# Altium schematic symbol library iMX6 Rex Development Baseboard V1I1.SCHLIB: 136 symbols (part 2 of 3)
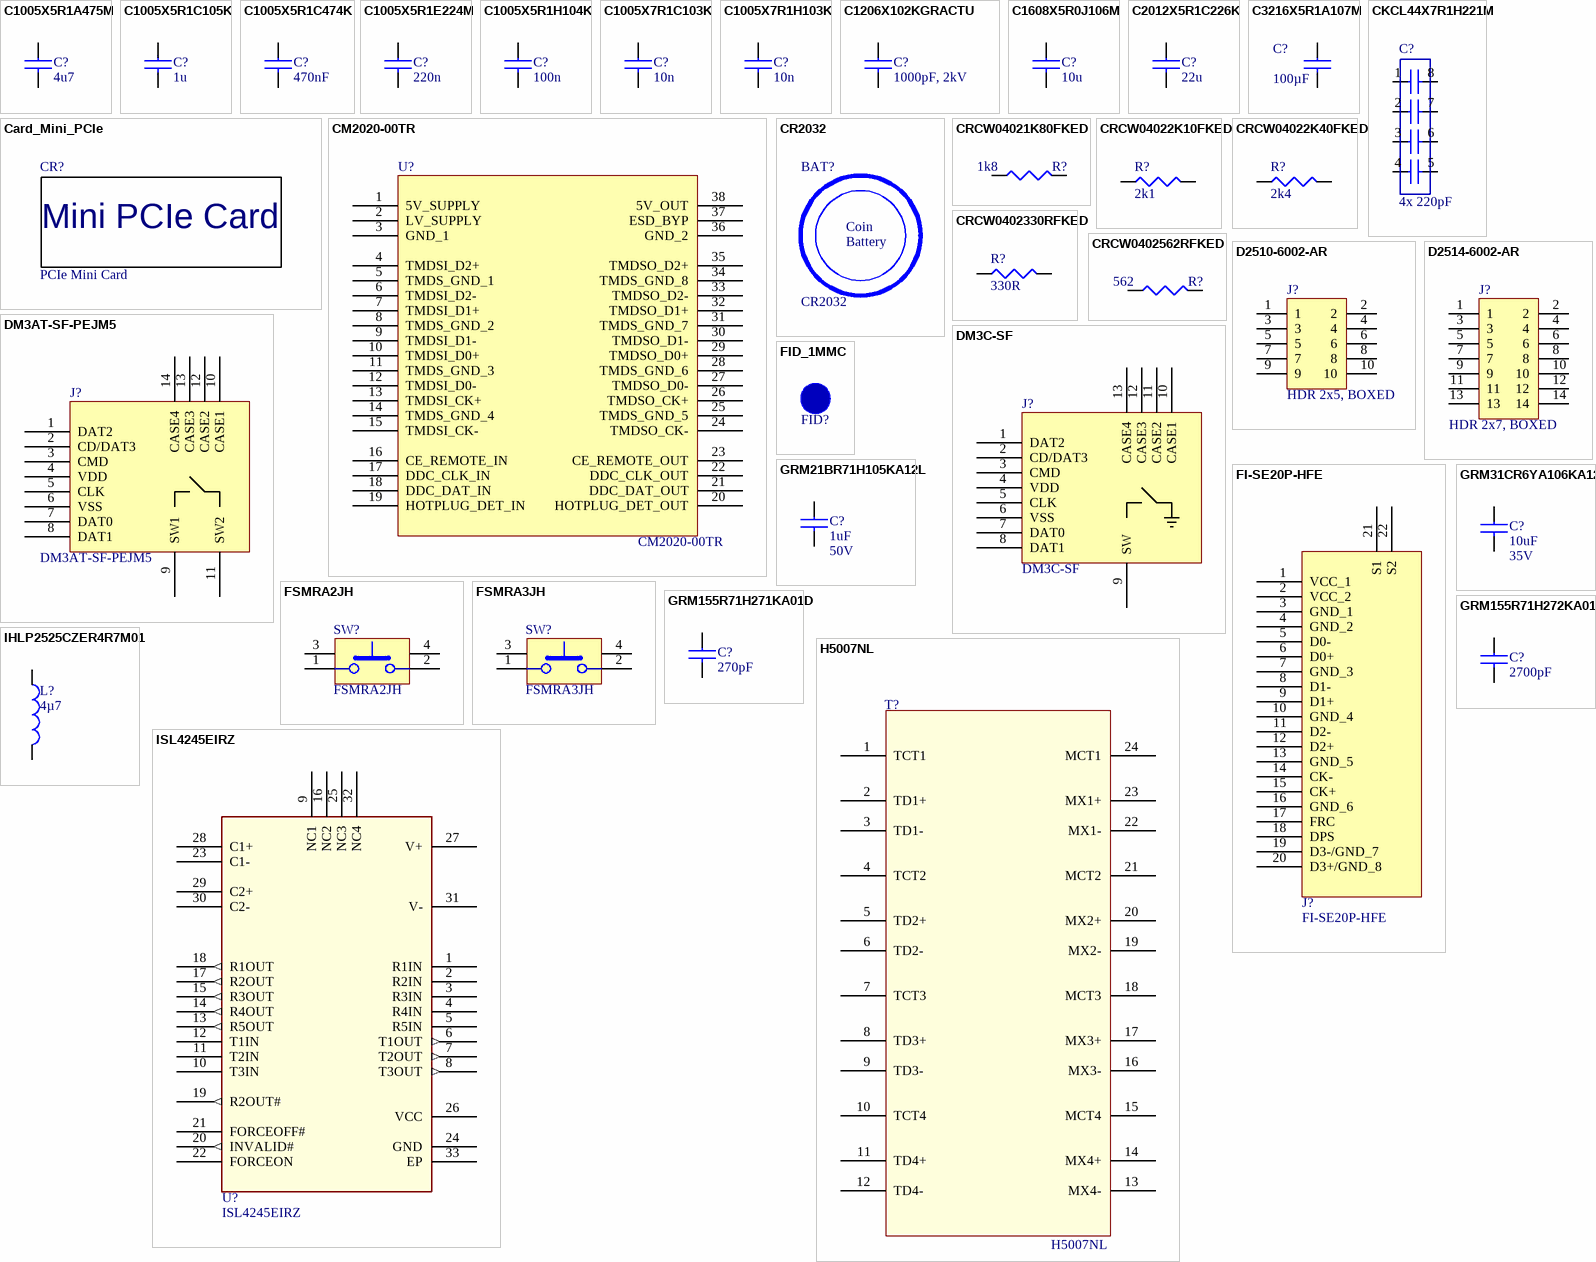
[diagram p5: symbols C1005X5R1A475M to ISL4245EIRZ]

## C1206X102KGRACTU
designator C?, comment 1000pF, 2kV
CAP CER 1000PF 2000V X7R 1206 FT; Manufacturer: Kemet; Manufacturer Part Number: C1206X102KGRACTU; .Checked PCB: used; Voltage - Rated: 2000V (2kV); Tolerance: ±10%; Capacitance: 1000pF; Category: Capacitors; Supplier Part Number: 399-5830-1-ND; Operating Temperature: -55°C ~ 125°C; Package / Case: 1206 (3216 Metric); Price 1k [$]: 0.27600; Value: 1000pF, 2kV; .Checked SCH: used; Supplier: Digikey; Supplier 1: Digi-Key; Supplier Part Number 1: 399-5830-1-ND; RoHS: RoHS Compliant; Stock 1: 2068; Pricing 1: 1=0.92, 10=0.771, 25=0.6324, 100=0.483, 250=0.37952, 500=0.345, 1000=0.276 (USD); Temperature Coefficient: X7R; Mounting Type: Surface Mount, MLCC; Applications: Boardflex Sensitive; Ratings: -; Size / Dimension: 0.134" L x 0.063" W (3.40mm x 1.60mm); Height - Seated (Max): -; Thickness (Max): 0.069" (1.75mm); Lead Spacing: -; Features: Soft Termination, High Voltage; Packaging: Cut Tape (CT); Lead Style: -; ComponentLink1URL: http://www.kemet.com/kemet/web/homepage/kechome.nsf/weben/8311688D32A99EF8852578B500644843/$file/KEM_CC105_HIVOLT.pdf; ComponentLink1Description: http://www.kemet.com/kemet/web/homepage/kechome.nsf/weben/8311688D32A99EF8852578B500644843/$file/KEM_CC105_HIVOLT.pdf
footprint C1206
pins: 1, 2

## C1608X5R0J106M
designator C?, comment 10u
CAP CER 10UF 6.3V X5R 20% 0603; Manufacturer: TDK Corporation; Manufacturer Part Number: C1608X5R0J106M; Capacitance: 10µF; Value: 10µF; .Checked PCB: used; Category: Capacitors; Supplier Part Number: 445-4112-1-ND; Operating Temperature: -55°C ~ 85°C; Package / Case: 0603 (1608 Metric); Price 1k [$]: 0.08580; .Checked SCH: used; Voltage - Rated: 6.3V; Features: Low ESR; Supplier: Digikey; Supplier 1: Digi-Key; Supplier Part Number 1: 445-4112-1-ND; RoHS: RoHS Compliant; Stock 1: 48157; Pricing 1: 1=0.46, 10=0.363, 100=0.1898, 250=0.14024, 500=0.1089, 1000=0.0858 (USD); Tolerance: ±20%; Temperature Coefficient: X5R; Mounting Type: Surface Mount, MLCC; Applications: General Purpose; Ratings: -; Size / Dimension: 0.063" L x 0.031" W (1.60mm x 0.80mm); Height - Seated (Max): -; Thickness (Max): 0.037" (0.95mm); Lead Spacing: -; Packaging: Cut Tape (CT); Lead Style: -; ComponentLink1URL: http://www.tdk.com/pdf/general_B11.pdf; ComponentLink1Description: http://www.tdk.com/pdf/general_B11.pdf
footprint C0603
pins: 1, 2

## C2012X5R1C226K
designator C?, comment 22u
CAP CER 22UF 16V 10% X5R 0805; Manufacturer: TDK Corporation; Manufacturer Part Number: C2012X5R1C226K; Capacitance: 22µF; .Checked PCB: RF; Supplier 1: Digi-Key; Supplier Part Number 1: 445-6797-1-ND; RoHS: RoHS Compliant; Category: Capacitors; Stock 1: 15408; Pricing 1: 1=0.77, 10=0.737, 100=0.3575, 250=0.297, 500=0.2695, 1000=0.2475 (USD); Voltage - Rated: 16V; Tolerance: ±10%; Temperature Coefficient: X5R; Mounting Type: Surface Mount, MLCC; Operating Temperature: -55°C ~ 85°C; Applications: General Purpose; Ratings: -; Package / Case: 0805 (2012 Metric); Size / Dimension: 0.079" L x 0.049" W (2.00mm x 1.25mm); Height - Seated (Max): -; Thickness (Max): 0.057" (1.45mm); Lead Spacing: -; Features: -; Packaging: Cut Tape (CT); Lead Style: -; ComponentLink1URL: http://www.tdk.com/pdf/general_B11.pdf; ComponentLink1Description: http://www.tdk.com/pdf/general_B11.pdf; .Checked SCH: RF
footprint C0805
pins: 1, 2

## C3216X5R1A107M
designator C?, comment 100µF
CAP CER 100UF 10V X5R 20% 1206; Manufacturer: TDK Corporation; Manufacturer Part Number: C3216X5R1A107M; .Checked PCB: used; Capacitance: 100µF; Category: Capacitors; Operating Temperature: -55°C ~ 85°C; Package / Case: 1206 (3216 Metric); Price 1k [$]: 0.85800; Value: 100µF; .Checked SCH: used; Voltage - Rated: 10V; Supplier Part Number: 445-6007-1-ND; Supplier: Digikey; Supplier 1: Digi-Key; Supplier Part Number 1: 445-6007-1-ND; RoHS: RoHS Compliant; Stock 1: 28026; Pricing 1: 1=1.65, 10=1.353, 100=1.089, 250=0.957, 500=0.891, 1000=0.693 (USD); Tolerance: ±20%; Temperature Coefficient: X5R; Mounting Type: Surface Mount, MLCC; Applications: General Purpose; Ratings: -; Size / Dimension: 0.126" L x 0.063" W (3.20mm x 1.60mm); Height - Seated (Max): -; Thickness (Max): 0.071" (1.80mm); Lead Spacing: -; Features: -; Packaging: Cut Tape (CT); Lead Style: -; ComponentLink1URL: http://www.tdk.com/pdf/general_B11.pdf; ComponentLink1Description: http://www.tdk.com/pdf/general_B11.pdf
footprint C1206
pins: 1, 2

## Card_Mini_PCIe
designator CR?, comment PCIe Mini Card  (no BOM)
Card MIni PCIe; .Creator: MM; Category: Card
footprint Mini_PCIe_full card (.Creator MM)
text: Mini PCIe Card

## CKCL44X7R1H221M
designator C?, comment 4x 220pF
CAP ARRAY 4CH 220PF 50V 0805; Manufacturer: TDK Corporation; Manufacturer Part Number: CKCL44X7R1H221M; Dielectric Material: Ceramic; Number of Capacitors: 4; Circuit Type: Isolated; Temperature Coefficient: X7R; Tolerance: ±20%; .Checked PCB: RF; Supplier 1: Digi-Key; Supplier Part Number 1: 445-1830-1-ND; RoHS: RoHS Compliant; Category: Capacitors; Stock 1: 43671; Pricing 1: 1=0.38, 10=0.297, 100=0.1553, 250=0.11476, 500=0.0891, 1000=0.0702 (USD); Capacitance: 220pF; Voltage - Rated: 50V; Mounting Type: Surface Mount; Package / Case: 0805 (2012 Metric); Size / Dimension: 0.079" L x 0.049" W (2.00mm x 1.25mm); Height - Seated (Max): 0.039" (1.00mm); Packaging: Cut Tape (CT); ComponentLink1URL: http://www.tdk.com/pdf/array_B11.pdf; ComponentLink1Description: http://www.tdk.com/pdf/array_B11.pdf; .Checked SCH: RF
footprint 4x_CAP_CC0805_CKCL44
pins: 1, 2, 3, 4, 5, 6, 7, 8

## CM2020-00TR
designator U?
IC HDMI TX PORT P/I 38-TSSOP; Manufacturer: ON Semiconductor; .Creator: MM; .Checked PCB: RF, used by MM; Supplier 1: Digi-Key; Manufacturer Part Number: CM2020-00TR; RoHS: RoHS Compliant; Category: Integrated Circuits (ICs); Stock 1: 7580; Pricing 1: 1=1.52, 10=1.34, 25=1.2096, 100=1.0584, 250=0.9282, 500=0.8232, 1000=0.651 (USD); Packaging: Cut Tape (CT); Type: HDMI Transmitter; Applications: Consumer Electronics, DVD-RW Players, Set Top Box; Mounting Type: Surface Mount; Package / Case: 38-TFSOP (0.173", 4.40mm Width) Exposed Pad; Supplier Device Package: 38-TSSOP; ComponentLink1URL: http://www.onsemi.com/pub_link/Collateral/CM2020-00TR-D.PDF; ComponentLink1Description: http://www.onsemi.com/pub_link/Collateral/CM2020-00TR-D.PDF; Supplier Part Number 1: CM2020-00TROSCT-ND; .Checked SCH: RF, used by MM
footprint TSSOP_38
pins: 1 5V_SUPPLY, 2 LV_SUPPLY, 3 GND_1, 4 TMDSI_D2+, 5 TMDS_GND_1, 6 TMDSI_D2-, 7 TMDSI_D1+, 8 TMDS_GND_2, 9 TMDSI_D1-, 10 TMDSI_D0+, 11 TMDS_GND_3, 12 TMDSI_D0-, 13 TMDSI_CK+, 14 TMDS_GND_4, 15 TMDSI_CK-, 16 CE_REMOTE_IN, 17 DDC_CLK_IN, 18 DDC_DAT_IN, 19 HOTPLUG_DET_IN, 20 HOTPLUG_DET_OUT, 21 DDC_DAT_OUT, 22 DDC_CLK_OUT, 23 CE_REMOTE_OUT, 24 TMDSO_CK-, 25 TMDS_GND_5, 26 TMDSO_CK+, 27 TMDSO_D0-, 28 TMDS_GND_6, 29 TMDSO_D0+, 30 TMDSO_D1-, 31 TMDS_GND_7, 32 TMDSO_D1+, 33 TMDSO_D2-, 34 TMDS_GND_8, 35 TMDSO_D2+, 36 GND_2, 37 ESD_BYP, 38 5V_OUT

## CR2032
designator BAT?  (mechanical)
BATTERY LITHIUM COIN 3V 20MM; Manufacturer: Panasonic - BSG; Battery Cell Size: Coin, 20.0mm; Capacity: 225mAh; Discharge Rate: 200µA; Shipping Info: Due to possible restrictions, a change in ship method may be required.; .Checked SCH: RF; Supplier 1: Digi-Key; Manufacturer Part Number: CR2032; RoHS: RoHS Compliant By Exemption; Category: Battery Products; Stock 1: 2691411; Pricing 1: 1=0.28, 10=0.248, 50=0.22, 200=0.1925, 400=0.176, 800=0.165, 1200=0.15125 (USD); Battery Chemistry: Lithium; Voltage - Rated: 3V; Size / Dimension: 0.79" Dia x 0.13" H (20.0mm x 3.2mm); Termination Style: Requires Holder; Weight: 0.1 oz (2.85g); ComponentLink1URL: http://panasonic.com/industrial/includes/pdf/Panasonic_Lithium_CR2032_CR2330.pdf; ComponentLink1Description: http://panasonic.com/industrial/includes/pdf/Panasonic_Lithium_CR2032_CR2330.pdf; Supplier Part Number 1: P189-ND; .Checked PCB: RF
text: Coin; Battery

## CRCW04021K80FKED
designator R?, comment 1k8
RES 1.80K OHM 1/16W 1% 0402 SMD; Manufacturer: Vishay Dale; Manufacturer Part Number: CRCW04021K80FKED; Resistance (Ohms): 1.8K; Power (Watts): 0.063W, 1/16W; Temperature Coefficient: ±100ppm/°C; .Checked PCB: RF; Supplier 1: Digi-Key; Supplier Part Number 1: 541-1.80KLCT-ND; RoHS: RoHS Compliant; Category: Resistors; Stock 1: 48596; Pricing 1: 10=0.083, 50=0.0444, 200=0.0255, 1000=0.0174 (USD); Composition: Thick Film; Features: -; Tolerance: ±1%; Size / Dimension: 0.039" L x 0.020" W (1.00mm x 0.50mm); Height: 0.016" (0.40mm); Number of Terminations: 2; Packaging: Cut Tape (CT); Package / Case: 0402 (1005 Metric); ComponentLink1URL: http://www.vishay.com/doc?20035; ComponentLink1Description: http://www.vishay.com/doc?20035; .Checked SCH: RF
footprint R0402
pins: 1, 2

## CRCW04022K10FKED
designator R?, comment 2k1
RES 2.10K OHM 1/16W 1% 0402 SMD; Manufacturer: Vishay Dale; Manufacturer Part Number: CRCW04022K10FKED; Resistance (Ohms): 2.1k; Power (Watts): 0.063W, 1/16W; Temperature Coefficient: ±100ppm/°C; .Creator: MM; .Checked PCB: RF, used by MM; Supplier 1: Digi-Key; RoHS: RoHS Compliant; Category: Resistors; Stock 1: 65680; Pricing 1: 10=0.083, 50=0.0444, 200=0.0255, 1000=0.0174 (USD); Packaging: Cut Tape (CT); Tolerance: ±1%; Composition: Thick Film; Features: Automotive AEC-Q200 Qualified; Package / Case: 0402 (1005 Metric); Supplier Device Package: 0402 (1005 Metric); Size / Dimension: 0.039" L x 0.020" W (1.00mm x 0.50mm); Height: 0.016" (0.40mm); Number of Terminations: 2; ComponentLink1URL: http://www.vishay.com/doc?20035; ComponentLink1Description: http://www.vishay.com/doc?20035; Supplier Part Number 1: 541-2.10KLCT-ND; .Checked SCH: RF, used by MM
footprint R0402
pins: 1, 2

## CRCW04022K40FKED
designator R?, comment 2k4
RES 2.40K OHM 1/16W 1% 0402 SMD; Manufacturer: Vishay Dale; Manufacturer Part Number: CRCW04022K40FKED; Resistance (Ohms): 2.4K; Power (Watts): 0.063W, 1/16W; Temperature Coefficient: ±100ppm/°C; .Checked PCB: RF; Supplier 1: Digi-Key; Supplier Part Number 1: 541-2.40KLCT-ND; RoHS: RoHS Compliant; Category: Resistors; Stock 1: 43967; Pricing 1: 10=0.083, 50=0.0444, 200=0.0255, 1000=0.0174 (USD); Composition: Thick Film; Features: -; Tolerance: ±1%; Package / Case: 0402 (1005 Metric); Size / Dimension: 0.039" L x 0.020" W (1.00mm x 0.50mm); Height: 0.016" (0.40mm); Number of Terminations: 2; Packaging: Cut Tape (CT); ComponentLink1URL: http://www.vishay.com/doc?20035; ComponentLink1Description: http://www.vishay.com/doc?20035; .Checked SCH: RF
footprint R0402
pins: 1, 2

## CRCW0402330RFKED
designator R?, comment 330R
RES 330 OHM 1/16W 1% 0402 SMD; Manufacturer: Vishay Dale; Manufacturer Part Number: CRCW0402330RFKED; Resistance (Ohms): 330; Power (Watts): 0.063W, 1/16W; Temperature Coefficient: ±100ppm/°C; .Checked PCB: RF; Supplier 1: Digi-Key; Supplier Part Number 1: 541-330LCT-ND; RoHS: RoHS Compliant; Category: Resistors; Stock 1: 49303; Pricing 1: 10=0.083, 50=0.0444, 200=0.0255, 1000=0.0174 (USD); Composition: Thick Film; Features: -; Tolerance: ±1%; Package / Case: 0402 (1005 Metric); Size / Dimension: 0.039" L x 0.020" W (1.00mm x 0.50mm); Height: 0.016" (0.40mm); Number of Terminations: 2; Packaging: Cut Tape (CT); ComponentLink1URL: http://www.vishay.com/doc?20035; ComponentLink1Description: http://www.vishay.com/doc?20035; .Checked SCH: RF
footprint R0402
pins: 1, 2

## CRCW0402562RFKED
designator R?, comment 562
RES 562 OHM 1/16W 1% 0402 SMD; Manufacturer: Vishay Dale; Manufacturer Part Number: CRCW0402562RFKED; Power (Watts): 0.063W, 1/16W; Temperature Coefficient: ±100ppm/°C; .Checked PCB: RF; Supplier 1: Digi-Key; Supplier Part Number 1: 541-562LCT-ND; RoHS: RoHS Compliant; Category: Resistors; Stock 1: 34891; Pricing 1: 10=0.083, 50=0.0444, 200=0.0255, 1000=0.0174 (USD); Resistance (Ohms): 562; Composition: Thick Film; Features: -; Tolerance: ±1%; Package / Case: 0402 (1005 Metric); Size / Dimension: 0.039" L x 0.020" W (1.00mm x 0.50mm); Height: 0.016" (0.40mm); Number of Terminations: 2; Packaging: Cut Tape (CT); ComponentLink1URL: http://www.vishay.com/doc?20035; ComponentLink1Description: http://www.vishay.com/doc?20035; .Checked SCH: RF
footprint R0402
pins: 1, 2

## D2510-6002-AR
designator J?, comment HDR 2x5, BOXED
CONN HEADER 10POS VERT 10GOLD; Manufacturer: 3M; Manufacturer Part Number: D2510-6002-AR; Connector Type: Header, Shrouded; Number of Positions: 10; Number of Positions Loaded: All; Pitch: 0.100" (2.54mm); .Creator: MM; Supplier 1: Digi-Key; RoHS: RoHS Compliant; Category: Connectors, Interconnects; Stock 1: 1080; Pricing 1: 1=1.57, 10=1.421, 50=1.276, 100=1.218, 250=1.102, 500=1.015, 1000=0.87, 2500=0.812, 5000=0.7714 (USD); Packaging: Bulk; Contact Type: Male Pin; Number of Rows: 2; Row Spacing: 0.100" (2.54mm); Contact Mating Length: 0.243" (6.17mm); Mounting Type: Through Hole; Termination: Solder; Fastening Type: -; Features: -; Contact Finish: Gold; Contact Finish Thickness: 10µin (0.25µm); Color: Black; ComponentLink1URL: http://multimedia.3m.com/mws/mediawebserver?66666UuZjcFSLXTtm8T_oxMcEVuQEcuZgVs6EVs6E666666--; ComponentLink1Description: http://multimedia.3m.com/mws/mediawebserver?66666UuZjcFSLXTtm8T_oxMcEVuQEcuZgVs6EVs6E666666--; Supplier Part Number 1: MHC10E-ND; .Checked PCB: MM; .Checked SCH: MM
footprint HDR_2x5_2.54mm_BOXED (Creator MM)
pins: 1, 2, 3, 4, 5, 6, 7, 8, 9, 10

## D2514-6002-AR
designator J?, comment HDR 2x7, BOXED
CONN HEADER 14POS VERT 10GOLD; Manufacturer: 3M; Manufacturer Part Number: D2514-6002-AR; Connector Type: Header, Shrouded; Number of Positions: 14; Number of Positions Loaded: All; Pitch: 0.100" (2.54mm); .Creator: MM; Supplier 1: Digi-Key; RoHS: RoHS Compliant; Category: Connectors, Interconnects; Stock 1: 5967; Pricing 1: 1=1.62, 10=1.47, 50=1.32, 100=1.26, 250=1.14, 500=1.05, 1000=0.9, 2500=0.84, 5000=0.798 (USD); Packaging: Bulk; Contact Type: Male Pin; Number of Rows: 2; Row Spacing: 0.100" (2.54mm); Contact Mating Length: 0.243" (6.17mm); Mounting Type: Through Hole; Termination: Solder; Fastening Type: -; Features: -; Contact Finish: Gold; Contact Finish Thickness: 10µin (0.25µm); Color: Black; ComponentLink1URL: http://multimedia.3m.com/mws/mediawebserver?66666UuZjcFSLXTtm8T_oxMcEVuQEcuZgVs6EVs6E666666--; ComponentLink1Description: http://multimedia.3m.com/mws/mediawebserver?66666UuZjcFSLXTtm8T_oxMcEVuQEcuZgVs6EVs6E666666--; Supplier Part Number 1: MHC14E-ND; .Checked PCB: MM; .Checked SCH: MM
footprint HDR_2x7_2.54MM_BOXED (Creator MM)
pins: 1, 2, 3, 4, 5, 6, 7, 8, 9, 10, 11, 12, 13, 14

## DM3AT-SF-PEJM5
designator J?
CONN MICRO SD R/A PUSH-PUSH SMD; Manufacturer: Hirose Electric Co Ltd; .Checked PCB: MM; Connector Type: Connector and Ejector; Card Type: Secure Digital - microSD TransFlash; Number of Positions: 10 (8 + 2); Insertion, Removal Method: Push In, Push Out; .Checked SCH: MM; Category: Connectors, Interconnects; Supplier Part Number: HR1964CT-ND; Family: Memory - PC Card Connectors; Manufacturer Part Number: DM3AT-SF-PEJM5; Price 1k [$]: 1.85200; Supplier: Digikey; Supplier 1: Digi-Key; Supplier Part Number 1: HR1964CT-ND; RoHS: RoHS Compliant; Stock 1: 7044; Pricing 1: 1=2.96, 10=2.457, 50=2.0476, 100=1.82, 250=1.5106, 500=1.365 (USD); Ejector Side: -; Mounting Type: Surface Mount, Right Angle; Features: Switch; Height Above Board: 0.066" (1.68mm); Mounting Feature: Normal, Standard - Top; Packaging: Cut Tape (CT); Contact Finish: Gold; Contact Finish Thickness: -; ComponentLink1URL: http://www.hirose.co.jp/cataloge_hp/e60900232.pdf; ComponentLink1Description: http://www.hirose.co.jp/cataloge_hp/e60900232.pdf
footprint uSD_DM3AT (MM added 3D model & asmbly layer.)
pins: 1 DAT2, 2 CD/DAT3, 3 CMD, 4 VDD, 5 CLK, 6 VSS, 7 DAT0, 8 DAT1, 9 SW1, 10 CASE1, 11 SW2, 12 CASE2, 13 CASE3, 14 CASE4

## DM3C-SF
designator J?
CONN MICRO SD R/A HING TYPE SMD; Manufacturer: Hirose Electric Co Ltd; Card Type: Secure Digital - microSD™; Number of Positions: 10 (8 + 2); Connector Type: Connector and Ejector; Insertion, Removal Method: Hinged Lid; .Creator: MM; Supplier 1: Digi-Key; Manufacturer Part Number: DM3C-SF; RoHS: RoHS Compliant; Category: Connectors, Interconnects; Stock 1: 87; Pricing 1: 1=2.36, 10=1.96, 25=1.8152, 50=1.6368, 100=1.452, 250=1.2738, 500=1.1616 (USD); Packaging: Cut Tape (CT); Ejector Side: -; Mounting Type: Surface Mount, Right Angle; Features: Switch; Height Above Board: 0.072" (1.83mm); Mounting Feature: Normal, Standard - Top; Contact Finish: Gold; Contact Finish Thickness: -; ComponentLink1URL: http://www.hirose.co.jp/cataloge_hp/e60900232.pdf; ComponentLink1Description: http://www.hirose.co.jp/cataloge_hp/e60900232.pdf; Supplier Part Number 1: HR1940CT-ND; .Checked PCB: MM; .Checked SCH: MM
footprint uSD_DM3CS (Creator MM)
pins: 1 DAT2, 2 CD/DAT3, 3 CMD, 4 VDD, 5 CLK, 6 VSS, 7 DAT0, 8 DAT1, 9 SW, 10 CASE1, 11 CASE2, 12 CASE3, 13 CASE4

## FI-SE20P-HFE
designator J?
CONN RCPT 1.25MM 20POS SMD R/A; Manufacturer: JAE Electronics; Connector Type: Receptacle; Number of Positions: 20; Number of Positions Loaded: All; Pitch: 0.049" (1.25mm); .Creator: MM; Supplier 1: Digi-Key; Manufacturer Part Number: FI-SE20P-HFE; RoHS: RoHS Compliant; Category: Connectors, Interconnects; Stock 1: 7292; Pricing 1: 1=4.93, 10=4.728, 25=4.334, 100=3.94, 250=3.44752, 500=3.349, 1000=2.8565 (USD); Packaging: Tray; Contact Type: Male Pin; Number of Rows: 1; Row Spacing: -; Contact Mating Length: -; Mounting Type: Surface Mount, Right Angle; Termination: Solder; Fastening Type: Friction Lock; Features: Solder Retention; Contact Finish: Gold; Contact Finish Thickness: -; Color: Beige; ComponentLink1URL: http://jae-connector.com/en/pdf/SJ100489.pdf; ComponentLink1Description: http://jae-connector.com/en/pdf/SJ100489.pdf; Supplier Part Number 1: 670-1843-ND; .Checked PCB: MM; .Checked SCH: MM
footprint FI-SE20P-HFE (Creator MM)
pins: 1 VCC_1, 2 VCC_2, 3 GND_1, 4 GND_2, 5 D0-, 6 D0+, 7 GND_3, 8 D1-, 9 D1+, 10 GND_4, 11 D2-, 12 D2+, 13 GND_5, 14 CK-, 15 CK+, 16 GND_6, 17 FRC, 18 DPS, 19 D3-/GND_7, 20 D3+/GND_8, 21 S1, 22 S2
1 alternate drawing of the same symbol

## FID_1MMC
designator FID?  (value not drawn)  (no BOM)
Fiducial 40mil Diameter, 120mil Mask; Supplier: Digikey
footprint FID_40X120D

## FSMRA2JH
designator SW?
SWITCH TACTILE SPST-NO 0.05A 12V; Manufacturer: TE Connectivity; Switch Function: Off-Mom; Contact Rating @ Voltage: 0.05A @ 12VDC; Actuator Type: Standard; Actuator Height off PCB, from Pins: 3.86mm; Actuator Orientation: Side Actuated; Outline: 7.10mm x 7.00mm; Illumination: Non-Illuminated; Operating Force: 160gf; Actuator Material: Polybutylene Terephthalate (PBT); Switch Travel: 0.25mm; Mechanical Life: 100,000 Cycles; .Creator: MM; Supplier 1: Digi-Key; Manufacturer Part Number: FSMRA2JH; RoHS: RoHS Compliant; Category: Switches; Stock 1: 12215; Pricing 1: 1=0.16, 10=0.151, 25=0.146, 50=0.141, 100=0.1331, 250=0.12528, 500=0.12006, 1000=0.09135 (USD); Packaging: Bulk; Circuit: SPST-NO; Mounting Type: Through Hole, Right Angle; Termination Style: PC Pin; Illumination Voltage (Nominal): -; Illumination Type, Color: -; Ingress Protection: -; Features: -; Operating Temperature: -35°C ~ 85°C; ComponentLink1URL: http://media.digikey.com/pdf/Data%20Sheets/Tyco%20Electronics%20Alcoswitch%20PDFs/FSM%20Series.pdf; ComponentLink1Description: http://media.digikey.com/pdf/Data%20Sheets/Tyco%20Electronics%20Alcoswitch%20PDFs/FSM%20Series.pdf; Supplier Part Number 1: 450-1662-ND; .Checked PCB: MM; .Checked SCH: MM
footprint FSMRA2JH (Creator MM)
pins: 1, 2, 3 MECH1, 4 MECH2

## FSMRA3JH
designator SW?
SWITCH TACTILE SPST-NO 0.05A 12V; Manufacturer: TE Connectivity; Switch Function: Off-Mom; Contact Rating @ Voltage: 0.05A @ 12VDC; Actuator Type: Standard; Actuator Height off PCB, from Pins: 5.85mm; Actuator Orientation: Side Actuated; Outline: 7.10mm x 7.00mm; Illumination: Non-Illuminated; Operating Force: 160gf; Actuator Material: Polyamide (PA), Nylon; Switch Travel: 0.25mm; Mechanical Life: 100,000 Cycles; .Creator: MM; Supplier 1: Digi-Key; Manufacturer Part Number: FSMRA3JH; RoHS: RoHS Compliant; Category: Switches; Stock 1: 37985; Pricing 1: 1=0.15, 10=0.143, 25=0.1376, 50=0.1328, 100=0.1255, 250=0.11808, 500=0.11316, 1000=0.0861 (USD); Packaging: Bulk; Circuit: SPST-NO; Mounting Type: Through Hole, Right Angle; Termination Style: PC Pin; Illumination Voltage (Nominal): -; Illumination Type, Color: -; Ingress Protection: -; Features: -; Operating Temperature: -35°C ~ 85°C; ComponentLink1URL: http://www.te.com/commerce/DocumentDelivery/DDEController?Action=srchrtrv&DocNm=1825027&DocType=Customer+Drawing&DocLang=English; ComponentLink1Description: http://www.te.com/commerce/DocumentDelivery/DDEController?Action=srchrtrv&DocNm=1825027&DocType=Customer+Drawing&DocLang=English; Supplier Part Number 1: 450-1657-ND; .Checked PCB: MM; .Checked SCH: MM
footprint FSMRA3JH (Creator MM)
pins: 1, 2, 3 MECH1, 4 MECH2

## GRM21BR71H105KA12L
designator C?, comment 1uF  Voltage - Rated: 50V
CAP CER 1UF 50V X7R 0805; Manufacturer: Murata Electronics North America; Manufacturer Part Number: GRM21BR71H105KA12L; Capacitance: 1.0µF; .Checked PCB: used; Tolerance: ±10%; Category: Capacitors; Operating Temperature: -55°C ~ 125°C; Package / Case: 0805 (2012 Metric); Price 1k [$]: 0.1359; Value: 1uF; .Checked SCH: used; Supplier Part Number: 490-4736-1-ND; Supplier: Digikey; Supplier 1: Digi-Key; Supplier Part Number 1: 490-4736-1-ND; RoHS: RoHS Compliant; Stock 1: 422791; Pricing 1: 1=0.28, 10=0.254, 25=0.226, 50=0.1978, 100=0.1836, 250=0.16952, 500=0.16102, 750=0.14691, 1000=0.12995 (USD); Temperature Coefficient: X7R; Mounting Type: Surface Mount, MLCC; Applications: General Purpose; Ratings: -; Size / Dimension: 0.079" L x 0.049" W (2.00mm x 1.25mm); Height - Seated (Max): -; Thickness (Max): 0.053" (1.35mm); Lead Spacing: -; Features: -; Packaging: Cut Tape (CT); Lead Style: -; ComponentLink1URL: http://search.murata.co.jp/Ceramy/image/img/PDF/ENG/GRM21BR71H105KA12.pdf; ComponentLink1Description: http://search.murata.co.jp/Ceramy/image/img/PDF/ENG/GRM21BR71H105KA12.pdf
footprint C0805
pins: 1, 2

## GRM31CR6YA106KA12L
designator C?, comment 10uF  Voltage - Rated: 35V
CAP CER 10UF 35V X5R 1206; Manufacturer: Murata Electronics North America; Manufacturer Part Number: GRM31CR6YA106KA12L; Capacitance: 10µF; .Checked PCB: used; Tolerance: ±10%; Category: Capacitors; Operating Temperature: -55°C ~ 85°C; Package / Case: 1206 (3216 Metric); Price 1k [$]: 0.19448; Value: 10uF; .Checked SCH: used; Supplier Part Number: 490-5524-1-ND; Supplier: Digikey; Supplier 1: Digi-Key; Supplier Part Number 1: 490-5524-1-ND; RoHS: RoHS Compliant; Stock 1: 76334; Pricing 1: 1=0.6, 10=0.501, 50=0.359, 100=0.3142, 250=0.24684, 500=0.2244, 1000=0.17952 (USD); Temperature Coefficient: X5R; Mounting Type: Surface Mount, MLCC; Applications: General Purpose; Ratings: -; Size / Dimension: 0.126" L x 0.063" W (3.20mm x 1.60mm); Height - Seated (Max): -; Thickness (Max): 0.071" (1.80mm); Lead Spacing: -; Features: -; Packaging: Cut Tape (CT); Lead Style: -; ComponentLink1URL: http://www.murata.com/products/catalog/pdf/c02e.pdf; ComponentLink1Description: http://www.murata.com/products/catalog/pdf/c02e.pdf
footprint C1206
pins: 1, 2

## GRM155R71H271KA01D
designator C?, comment 270pF
CAP CER 270PF 50V 10% X7R 0402; Manufacturer: Murata Electronics North America; Manufacturer Part Number: GRM155R71H271KA01D; .Checked PCB: RF; Supplier 1: Digi-Key; Supplier Part Number 1: 490-1299-1-ND; RoHS: RoHS Compliant; Category: Capacitors; Stock 1: 83894; Pricing 1: 10=0.032, 50=0.0252, 100=0.0189, 250=0.01364, 500=0.01008, 1000=0.00683, 5000=0.00525 (USD); Capacitance: 270pF; Voltage - Rated: 50V; Tolerance: ±10%; Temperature Coefficient: X7R; Mounting Type: Surface Mount, MLCC; Operating Temperature: -55°C ~ 125°C; Applications: General Purpose; Ratings: -; Package / Case: 0402 (1005 Metric); Size / Dimension: 0.039" L x 0.020" W (1.00mm x 0.50mm); Height - Seated (Max): -; Thickness (Max): 0.022" (0.55mm); Lead Spacing: -; Features: -; Packaging: Cut Tape (CT); Lead Style: -; ComponentLink1URL: http://search.murata.co.jp/Ceramy/image/img/PDF/ENG/GRM155R71H271KA01.pdf; ComponentLink1Description: http://search.murata.co.jp/Ceramy/image/img/PDF/ENG/GRM155R71H271KA01.pdf; .Checked SCH: RF
footprint C0402
pins: 1, 2

## GRM155R71H272KA01D
designator C?, comment 2700pF
CAP CER 2700PF 50V 10% X7R 0402; Manufacturer: Murata Electronics North America; Manufacturer Part Number: GRM155R71H272KA01D; .Checked PCB: RF; Supplier 1: Digi-Key; Supplier Part Number 1: 490-1306-1-ND; RoHS: RoHS Compliant; Category: Capacitors; Stock 1: 38160; Pricing 1: 10=0.01, 50=0.0086, 100=0.0074, 250=0.00664, 500=0.00618, 750=0.00571, 1000=0.00542 (USD); Capacitance: 2700pF; Voltage - Rated: 50V; Tolerance: ±10%; Temperature Coefficient: X7R; Mounting Type: Surface Mount, MLCC; Operating Temperature: -55°C ~ 125°C; Applications: General Purpose; Ratings: -; Package / Case: 0402 (1005 Metric); Size / Dimension: 0.039" L x 0.020" W (1.00mm x 0.50mm); Height - Seated (Max): -; Thickness (Max): 0.022" (0.55mm); Lead Spacing: -; Features: -; Packaging: Cut Tape (CT); Lead Style: -; ComponentLink1URL: http://search.murata.co.jp/Ceramy/image/img/PDF/ENG/GRM155R71H272KA01.pdf; ComponentLink1Description: http://search.murata.co.jp/Ceramy/image/img/PDF/ENG/GRM155R71H272KA01.pdf; .Checked SCH: RF
footprint C0402
pins: 1, 2

## H5007NL
designator T?
MODULE SINGLE GIGABIT LAN 24SOIC; Manufacturer: PULSE ELECTRONICS CORPORATION; .Checked PCB: MM; Transformer Type: Isolation and Data Interface (Encapsulated); Turns Ratio - Primary:Secondary: 1CT : 1CT; Category: Transformers; Family: Pulse; Manufacturer Part Number: H5007NL; Operating Temperature: 0°C ~ 70°C; Price 1k [$]: 3.25125; Supplier: Digikey; Supplier Part Number: 553-1334-ND; .Checked SCH: MM; Supplier 1: Digi-Key; Supplier Part Number 1: 553-1334-ND; RoHS: RoHS Compliant; Stock 1: 15654; Pricing 1: 1=5.74, 10=5.1, 100=4.08, 250=3.69752, 500=3.50626, 1000=3.25125, 5000=3.162 (USD); Inductance: -; E.T.: -; Mounting Type: Surface Mount; Size / Dimension: 17.53mm L x 12.20mm W; Height - Seated (Max): 5.76mm; ComponentLink1URL: http://ww2.pulseeng.com/products/datasheets/HC500.pdf; ComponentLink1Description: http://ww2.pulseeng.com/products/datasheets/HC500.pdf
footprint H5007NL
pins: 1 TCT1, 2 TD1+, 3 TD1-, 4 TCT2, 5 TD2+, 6 TD2-, 7 TCT3, 8 TD3+, 9 TD3-, 10 TCT4, 11 TD4+, 12 TD4-, 13 MX4-, 14 MX4+, 15 MCT4, 16 MX3-, 17 MX3+, 18 MCT3, 19 MX2-, 20 MX2+, 21 MCT2, 22 MX1-, 23 MX1+, 24 MCT1

## IHLP2525CZER4R7M01
designator L?, comment 4µ7
INDUCTOR POWER 4.7UH 5.5A SMD; Manufacturer: Vishay/Dale; Manufacturer Part Number: IHLP2525CZER4R7M01; .Checked PCB: used; Inductance: 4.7µH; Current - Saturation: 10A; Shielding: Shielded; DC Resistance (DCR): 40 mOhm Max; Tolerance: ±20%; Frequency - Test: 100kHz; .Checked SCH: used; Category: Inductors, Coils, Chokes; Operating Temperature: -55°C ~ 125°C; Package / Case: 0.270" L x 0.255" W x 0.118" H (6.86mm x 6.47mm x 3.00mm); Price 1k [$]: 1.09800; Value: 4µ7; Current: 5.5A; Applications: General Purpose; Supplier Part Number: 541-1010-1-ND; Supplier: Digikey; Supplier 1: Digi-Key; Supplier Part Number 1: 541-1010-1-ND; RoHS: RoHS Compliant; Stock 1: 25684; Pricing 1: 1=2.26, 10=1.83, 100=1.525, 500=1.22, 1000=1.098 (USD); Current - Temperature Rise: 5.5A; Type: -; Q @ Freq: -; Frequency - Self Resonant: -; Material - Core: -; Mounting Type: Surface Mount; Packaging: Cut Tape (CT); ComponentLink1URL: http://www.vishay.com/doc?34104; ComponentLink1Description: http://www.vishay.com/doc?34104
footprint IHLP_255MILx270MIL
pins: 1, 2

## ISL4245EIRZ
designator U?
IC 3DRVR/5RCVR RS232 3V 32-QFN; Manufacturer: Intersil; Number of Drivers/Receivers: 3/5; Voltage - Supply: 2.7 V ~ 5.5 V; .Checked PCB: RF; Supplier 1: Digi-Key; Supplier Part Number 1: ISL4245EIRZ-ND; Manufacturer Part Number: ISL4245EIRZ; RoHS: RoHS Compliant; Category: Integrated Circuits (ICs); Stock 1: 1147; Pricing 1: 1=6.44, 25=5.23, 100=3.65 (USD); Type: Transceiver; Protocol: RS232; Mounting Type: Surface Mount; Package / Case: 32-VFQFN Exposed Pad; Supplier Device Package: 32-QFN Exposed Pad (5x5); Packaging: Tube; ComponentLink1URL: http://www.intersil.com/data/fn/fn8038.pdf; ComponentLink1Description: http://www.intersil.com/data/fn/fn8038.pdf; .Checked SCH: RF
footprint QFN32 5x5x0.85
pins: 1 R1IN, 2 R2IN, 3 R3IN, 4 R4IN, 5 R5IN, 6 T1OUT (out), 7 T2OUT (out), 8 T3OUT (out), 9 NC1, 10 T3IN, 11 T2IN, 12 T1IN, 13 R5OUT (out), 14 R4OUT (out), 15 R3OUT (out), 16 NC2, 17 R2OUT (out), 18 R1OUT (out), 19 R2OUT# (out), 20 INVALID# (out), 21 FORCEOFF#, 22 FORCEON, 23 C1-, 24 GND (power), 25 NC3, 26 VCC (power), 27 V+, 28 C1+, 29 C2+, 30 C2-, 31 V-, 32 NC4, 33 EP (power)

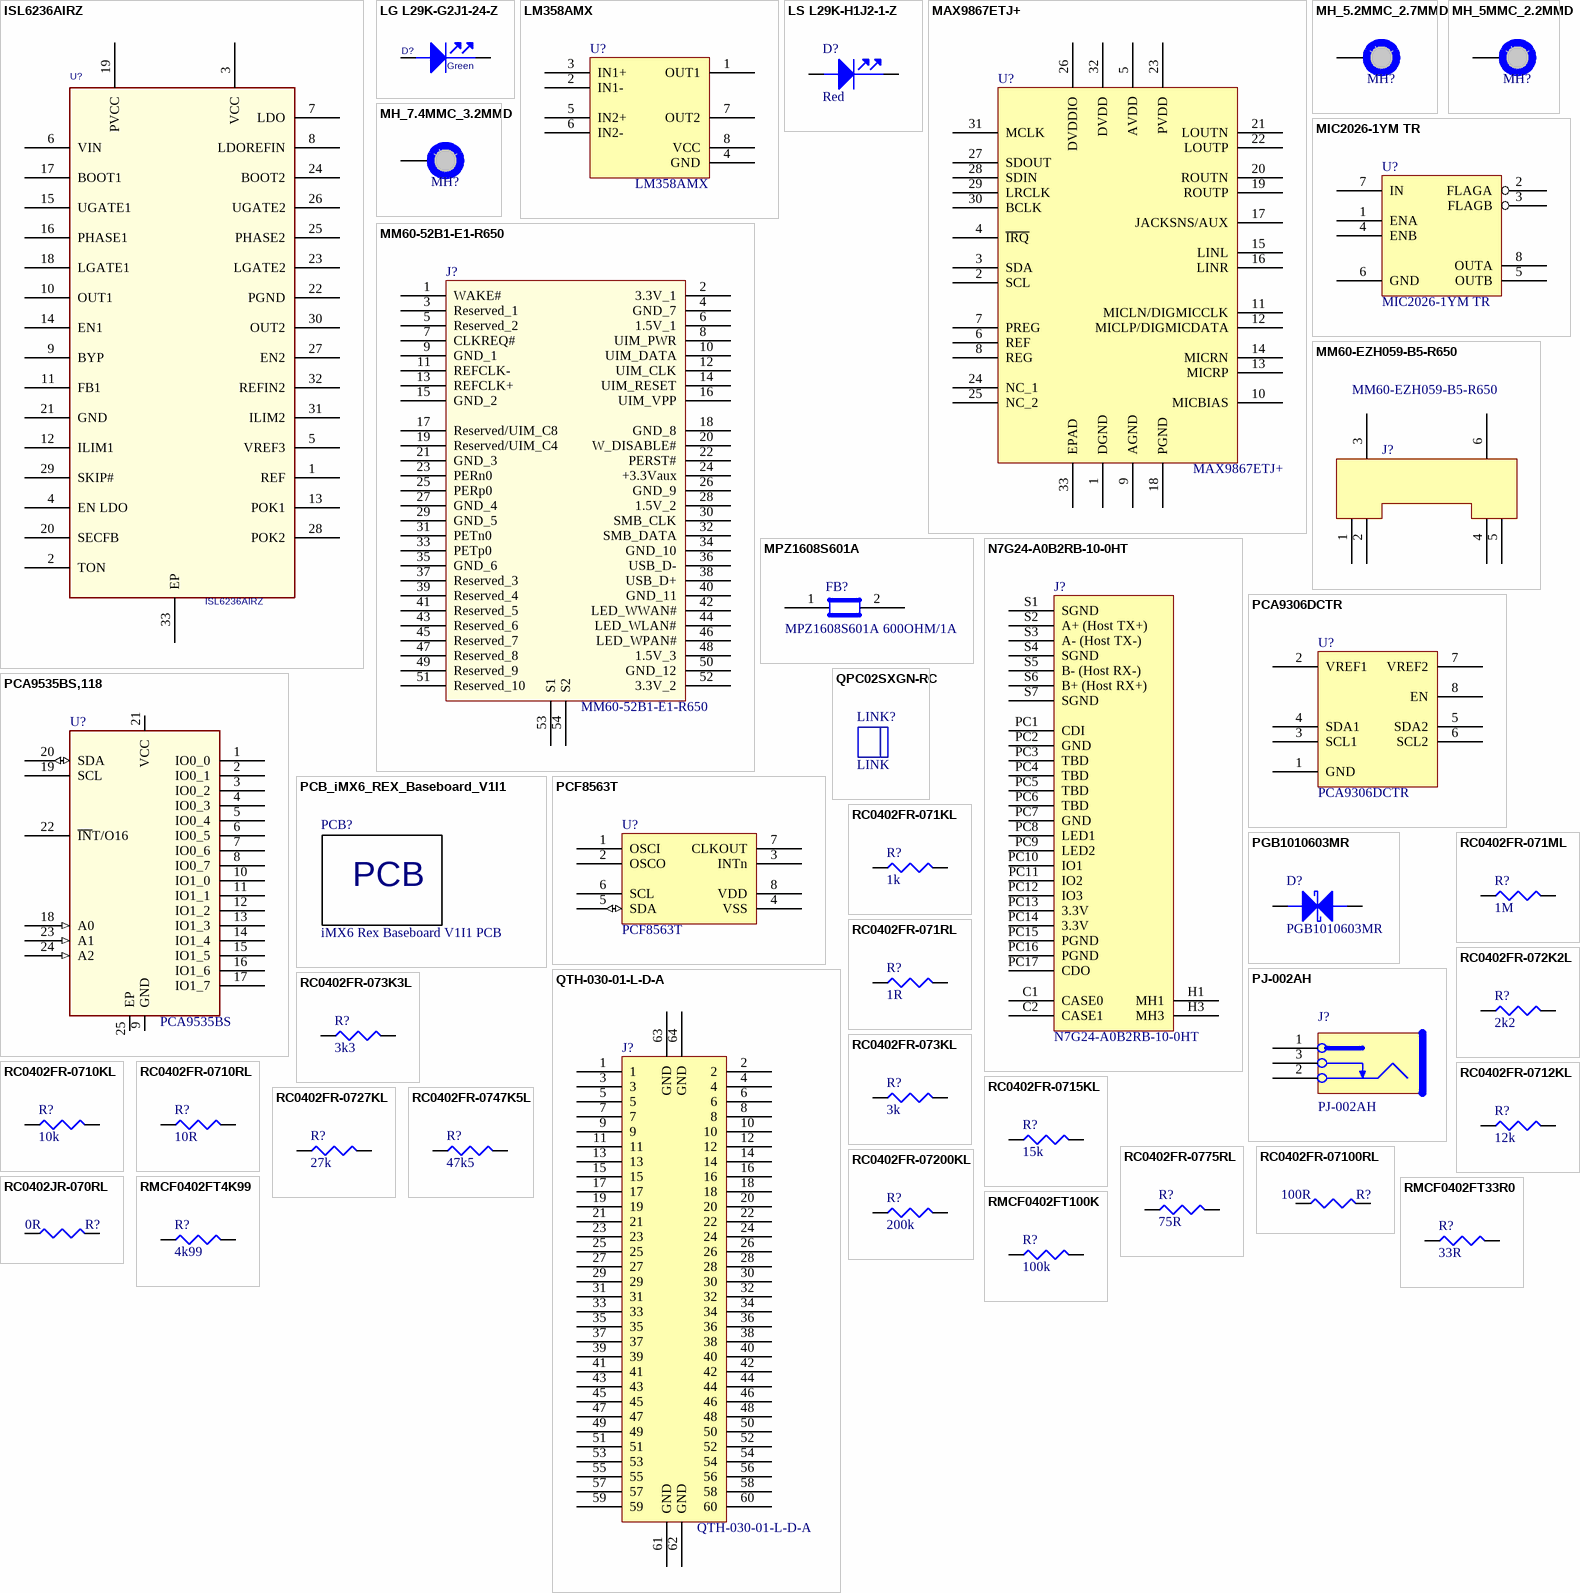
[diagram p2: symbols ISL6236AIRZ to RMCF0402FT100K]

## ISL6236AIRZ
designator U?
IC MAIN PWR CTRLR QUAD 32-QFN; Manufacturer: Intersil; .Checked PCB: used; Voltage - Input: 4.5 V ~ 25 V; Number of Outputs: 4; Voltage - Output: Multiple; .Checked SCH: used; Category: Integrated Circuits (ICs); Manufacturer Part Number: ISL6236AIRZ; Operating Temperature: -40°C ~ 100°C; Package / Case: 32-VFQFN Exposed Pad; Price 1k [$]: 3.0840; Value: ISL6236AIRZ; Family: PMIC - Voltage Regulators - Special Purpose; Supplier Part Number: ISL6236AIRZ-ND; Supplier: Digikey; Supplier 1: Digi-Key; Supplier Part Number 1: ISL6236AIRZ-ND; RoHS: RoHS Compliant; Stock 1: 0; Pricing 1: 600=4.28 (USD); Applications: Controller, Notebook Power System; Mounting Type: Surface Mount; Supplier Device Package: 32-QFN Exposed Pad (5x5); Packaging: Tube; ComponentLink1URL: http://www.intersil.com/data/fn/fn6453.pdf; ComponentLink1Description: http://www.intersil.com/data/fn/fn6453.pdf
footprint 32_VFQFN_EXPOSED_PAD
pins: 1 REF, 2 TON, 3 VCC, 4 EN LDO, 5 VREF3, 6 VIN, 7 LDO, 8 LDOREFIN, 9 BYP, 10 OUT1, 11 FB1, 12 ILIM1, 13 POK1, 14 EN1, 15 UGATE1, 16 PHASE1, 17 BOOT1, 18 LGATE1, 19 PVCC, 20 SECFB, 21 GND, 22 PGND, 23 LGATE2, 24 BOOT2, 25 PHASE2, 26 UGATE2, 27 EN2, 28 POK2, 29 SKIP#, 30 OUT2, 31 ILIM2, 32 REFIN2, 33 EP

## LG L29K-G2J1-24-Z
designator D?, comment Green
LED SMARTLED GREEN 570NM 0603; Manufacturer: OSRAM Opto Semiconductors Inc; Manufacturer Part Number: LG L29K-G2J1-24-Z; .Checked PCB: used; Current - Test: 2mA; Voltage - Forward (Vf) Typ: 1.7V; Luminous Flux @ Current - Test: 12 mlm; Millicandela Rating: 3.92mcd; Wavelength - Peak: 572nm; Lens Type: Diffused; Lens Style/Size: Rectangle with Flat Top, 1.3mm x 0.8mm; Viewing Angle: 160°; Regulator Topology: Positive Fixed; Voltage - Output: 2.5V; Voltage - Input: 2.6 V ~ 6 V; Voltage - Dropout (Typical): 0.16V @ 500mA; Number of Regulators: 1; Current - Output: 500mA; Current - Limit (Min): 600mA; .Checked SCH: used; Category: Optoelectronics; Supplier Part Number: 475-2709-1-ND; Family: LEDs - <75mA, Discre; Price 1k [$]: 0.08744; Value: Green; Color: Green; Package / Case: 0603 (1608 Metric); Supplier: Digikey; Supplier 1: Digi-Key; Supplier Part Number 1: 475-2709-1-ND; RoHS: RoHS Compliant; Stock 1: 30318; Pricing 1: 1=0.16, 10=0.137, 100=0.1093, 250=0.09564, 500=0.08744 (USD); Wavelength - Dominant: 570nm; Size / Dimension: 1.70mm L x 0.80mm W; Height: 0.65mm; Mounting Type: Surface Mount; Packaging: Cut Tape (CT); ComponentLink1URL: http://catalog.osram-os.com/catalogue/catalogue.do;jsessionid=32CB61882C089EDD4B6D0A54E7E1F117?act=downloadFile&favOid=020000020000138e000100b6; ComponentLink1Description: http://catalog.osram-os.com/catalogue/catalogue.do;jsessionid=32CB61882C089EDD4B6D0A54E7E1F117?act=downloadFile&favOid=020000020000138e000100b6; Operating Temperature: -40°C ~ 125°C; Supplier Device Package: 6-TMLF® (1.6x1.6); ComponentLink2URL: http://www.micrel.com/_PDF/mic5353.pdf; ComponentLink2Description: http://www.micrel.com/_PDF/mic5353.pdf
footprint LED_0603
pins: 1 cathode, 2 ANODE

## LM358AMX
designator U?
IC OPAMP DUAL 0-70DEG C 8-SOIC; Manufacturer: Fairchild Semiconductor; Amplifier Type: General Purpose; Number of Circuits: 2; Slew Rate: 0.3 V/µs; Current - Input Bias: 45nA; Voltage - Input Offset: 2000µV; Current - Supply: 800µA; Current - Output / Channel: 30mA; Voltage - Supply, Single/Dual (±): 3 V ~ 32 V, ±1.5 V ~ 16 V; .Checked PCB: RF; Supplier 1: Digi-Key; Supplier Part Number 1: LM358AMXFSCT-ND; Manufacturer Part Number: LM358AMX; RoHS: RoHS Compliant; Category: Integrated Circuits (ICs); Stock 1: 15608; Pricing 1: 1=0.47, 25=0.31, 100=0.2547, 250=0.21224, 500=0.17632, 750=0.14692, 1000=0.1306 (USD); Output Type: -; Gain Bandwidth Product: -; -3db Bandwidth: -; Operating Temperature: 0°C ~ 70°C; Mounting Type: Surface Mount; Package / Case: 8-SOIC (0.154", 3.90mm Width); Supplier Device Package: 8-SOIC; Packaging: Cut Tape (CT); ComponentLink1URL: http://www.fairchildsemi.com/ds/LM/LM358A.pdf; ComponentLink1Description: http://www.fairchildsemi.com/ds/LM/LM358A.pdf; .Checked SCH: RF
footprint 8_SOIC_3.9MM
pins: 1 OUT1, 2 IN1-, 3 IN1+, 4 GND, 5 IN2+, 6 IN2-, 7 OUT2, 8 VCC

## LS L29K-H1J2-1-Z
designator D?, comment Red
LED SMARTLED RED 630NM 0603 SMD; Manufacturer: OSRAM Opto Semiconductors Inc; Manufacturer Part Number: LS L29K-H1J2-1-Z; Millicandela Rating: 4.95mcd; Voltage - Forward (Vf) Typ: 1.8V; Current - Test: 2mA; Wavelength - Peak: 643nm; Viewing Angle: 160°; Lens Type: Diffused; Lens Style/Size: Rectangle with Flat Top, 1.3mm x 0.8mm; Luminous Flux @ Current - Test: 20 mlm; .Checked PCB: RF; Supplier 1: Digi-Key; Supplier Part Number 1: 475-1195-1-ND; RoHS: RoHS Compliant; Category: Optoelectronics; Stock 1: 71670; Pricing 1: 1=0.16, 10=0.137, 100=0.1093, 250=0.09564, 500=0.08744 (USD); Color: Red; Wavelength - Dominant: 630nm; Package / Case: 0603 (1608 Metric); Size / Dimension: 1.70mm L x 0.80mm W; Height: 0.65mm; Mounting Type: Surface Mount; Packaging: Cut Tape (CT); ComponentLink1URL: http://catalog.osram-os.com/catalogue/catalogue.do;jsessionid=DB7CFDBAC5AF1E216E45F622E867085A?act=downloadFile&favOid=020000010003f9de000100b6; ComponentLink1Description: http://catalog.osram-os.com/catalogue/catalogue.do;jsessionid=DB7CFDBAC5AF1E216E45F622E867085A?act=downloadFile&favOid=020000010003f9de000100b6; .Checked SCH: RF
footprint LED_0603
pins: 1 cathode, 2 ANODE

## MAX9867ETJ+
designator U?
IC STEREO AUD CODEC LP 32TQFN-EP; Manufacturer: Maxim Integrated; Data Interface: I²C, Serial; Resolution (Bits): 18 b; Number of ADCs / DACs: 2 / 2; Sigma Delta: Yes; Dynamic Range, ADCs / DACs (db) Typ: 85 / 90; Voltage - Supply, Analog: 1.65 V ~ 1.95 V; .Creator: MM; .Checked PCB: RF, used by MM; Supplier 1: Digi-Key; Manufacturer Part Number: MAX9867ETJ+; RoHS: RoHS Compliant; Category: Integrated Circuits (ICs); Stock 1: 1716; Pricing 1: 1=2.97, 10=2.822, 25=1.98, 50=1.881, 100=1.43, 250=1.35852, 500=1.26226 (USD); Packaging: Tray; Type: Stereo Audio; S/N Ratio, ADCs / DACs (db) Typ: -; Voltage - Supply, Digital: 1.65 V ~ 1.95 V; Operating Temperature: -40°C ~ 85°C; Mounting Type: Surface Mount; Package / Case: 32-WFQFN Exposed Pad; Supplier Device Package: 32-TQFN-EP (5x5); ComponentLink1URL: http://datasheets.maximintegrated.com/en/ds/MAX9867.pdf; ComponentLink1Description: http://datasheets.maximintegrated.com/en/ds/MAX9867.pdf; Supplier Part Number 1: MAX9867ETJ+-ND; .Checked SCH: MM
footprint QFN32 5x5x0.85
pins: 1 DGND, 2 SCL, 3 SDA, 4 ~{IRQ}, 5 AVDD, 6 REF, 7 PREG, 8 REG, 9 AGND, 10 MICBIAS, 11 MICLN/DIGMICCLK, 12 MICLP/DIGMICDATA, 13 MICRP, 14 MICRN, 15 LINL, 16 LINR, 17 JACKSNS/AUX, 18 PGND, 19 ROUTP, 20 ROUTN, 21 LOUTN, 22 LOUTP, 23 PVDD, 24 NC_1, 25 NC_2, 26 DVDDIO, 27 SDOUT, 28 SDIN, 29 LRCLK, 30 BCLK, 31 MCLK, 32 DVDD, 33 EPAD

## MH_5.2MMC_2.7MMD
designator MH?  (value not drawn)  (no BOM)
Mounting Hole 5.2mm Diameter, 2.7mm Drill; .Creator: MM
footprint MH_5.2MMD_2.7MMD (Creator MM)
pins: 1

## MH_5MMC_2.2MMD
designator MH?  (value not drawn)  (no BOM)
Mounting Hole 5mm Diameter, 2.2mm Drill
footprint MH_5MMD_2.2MMD
pins: 1

## MH_7.4MMC_3.2MMD
designator MH?  (value not drawn)  (no BOM)
Mounting Hole 7.4mm Diameter, 3.2mm Drill
footprint MH_7.4MMD_3.2MMD
pins: 1

## MIC2026-1YM TR
designator U?
IC SW DISTRIBUTION 2CHAN 8SOIC; Manufacturer: Micrel Inc; .Checked PCB: used; Number of Outputs: 2; Rds (On): 140 mOhm; Internal Switch(s): Yes; Current Limit: 900mA; Voltage - Input: 2.7 V ~ 5.5 V; .Checked SCH: used; Category: Integrated Circuits (ICs); Family: PMIC - Power Distribution Switches; Manufacturer Part Number: MIC2026-1YM TR; Operating Temperature: -40°C ~ 85°C; Package / Case: 8-SOIC (0.154", 3.90mm Width); Price 1k [$]: 0.53200; Supplier: Digikey; Supplier Part Number: 576-1059-1-ND; Value: MIC2026-1YM TR; Supplier 1: Digi-Key; Supplier Part Number 1: 576-1059-1-ND; RoHS: RoHS Compliant; Stock 1: 44857; Pricing 1: 1=1.14, 25=0.95, 100=0.76, 250=0.57, 500=0.532 (USD); Type: High Side Switch; Mounting Type: Surface Mount; Supplier Device Package: 8-SOIC; Packaging: Cut Tape (CT); ComponentLink1URL: http://www.micrel.com/_PDF/mic2026.pdf; ComponentLink1Description: http://www.micrel.com/_PDF/mic2026.pdf
footprint 8_SOIC_3.9MM
pins: 1 ENA, 2 FLAGA, 3 FLAGB, 4 ENB, 5 OUTB, 6 GND (power), 7 IN (power), 8 OUTA

## MM60-52B1-E1-R650
designator J?
CONN MINI EXPRESS CARD 52POS SMD; Manufacturer: JAE Electronics; Card Type: PCI Express Mini Card; Gender: Female; Number of Positions: 52; Card Thickness: 0.039" (1.00mm); Pitch: 0.031" (0.80mm); Material - Insulation: Thermoplastic; Read Out: Dual; .Creator: MM; Supplier 1: Digi-Key; Manufacturer Part Number: MM60-52B1-E1-R650; RoHS: RoHS Compliant; Category: Connectors, Interconnects; Stock 1: 470; Pricing 1: 1=2.16, 10=1.962, 25=1.842, 100=1.6817, 250=1.52152 (USD); Packaging: Cut Tape (CT); Number of Positions/Bay/Row: -; Number of Rows: 2; Features: Board Guide; Mounting Type: Surface Mount, Right Angle; Termination: Solder; Contact Material: Copper Alloy; Contact Finish: Gold; Contact Finish Thickness: 4µin (0.10µm); Contact Type: -; Color: -; Flange Feature: -; Operating Temperature: -40°C ~ 85°C; ComponentLink1URL: http://jae-connectors.com/en/pdf/JACS-10313_MM60.pdf; ComponentLink1Description: http://jae-connectors.com/en/pdf/JACS-10313_MM60.pdf; Supplier Part Number 1: 670-2275-1-ND; .Checked PCB: MM; .Checked SCH: MM
footprint MINI_PCIE_52PIN_CARD_CON (Creator MM)
pins: 1 WAKE#, 2 3.3V_1, 3 Reserved_1, 4 GND_7, 5 Reserved_2, 6 1.5V_1, 7 CLKREQ#, 8 UIM_PWR, 9 GND_1, 10 UIM_DATA, 11 REFCLK-, 12 UIM_CLK, 13 REFCLK+, 14 UIM_RESET, 15 GND_2, 16 UIM_VPP, 17 Reserved/UIM_C8, 18 GND_8, 19 Reserved/UIM_C4, 20 W_DISABLE#, 21 GND_3, 22 PERST#, 23 PERn0, 24 +3.3Vaux, 25 PERp0, 26 GND_9, 27 GND_4, 28 1.5V_2, 29 GND_5, 30 SMB_CLK, 31 PETn0, 32 SMB_DATA, 33 PETp0, 34 GND_10, 35 GND_6, 36 USB_D-, 37 Reserved_3, 38 USB_D+, 39 Reserved_4, 40 GND_11, 41 Reserved_5, 42 LED_WWAN#, 43 Reserved_6, 44 LED_WLAN#, 45 Reserved_7, 46 LED_WPAN#, 47 Reserved_8, 48 1.5V_3, 49 Reserved_9, 50 GND_12, 51 Reserved_10, 52 3.3V_2, 53 S1, 54 S2

## MM60-EZH059-B5-R650
designator J?
CONN MINI EXPRESS CARD LATCH SMD; Manufacturer: JAE Electronics; For Use With/Related Products: PCI Express Mini Card; .Creator: MM; Supplier 1: Digi-Key; Manufacturer Part Number: MM60-EZH059-B5-R650; RoHS: RoHS Compliant; Category: Connectors, Interconnects; Stock 1: 4853; Pricing 1: 1=1.22, 10=1.075, 25=1.0116, 100=0.9272, 250=0.84292 (USD); Packaging: Cut Tape (CT); Accessory Type: Latch; ComponentLink1URL: http://jae-connector.com/en/pdf/SJ105221.pdf; ComponentLink1Description: http://jae-connector.com/en/pdf/SJ105221.pdf; Supplier Part Number 1: 670-2277-1-ND; .Checked PCB: MM; .Checked SCH: MM
footprint MINI_PCIE_52PIN_CARD_LATCH (Creator MM)
pins: 1, 2, 3, 4, 5, 6

## MPZ1608S601A
designator FB?, comment MPZ1608S601A 600OHM/1A
FERRITE CHIP BEAD 600 OHM SMD 1A; Manufacturer: TDK Corporation; Impedance @ Frequency: 600 Ohm @ 100MHz; DC Resistance (DCR): 150 mOhm Max; Filter Type: Differential Mode - Single; Number of Lines: 1; .Checked PCB: RF; Supplier 1: Digi-Key; Supplier Part Number 1: 445-2205-1-ND; Manufacturer Part Number: MPZ1608S601A; RoHS: RoHS Compliant; Category: Filters; Stock 1: 328345; Pricing 1: 1=0.36, 10=0.24, 100=0.096, 250=0.069, 500=0.0492, 1000=0.036 (USD); Current Rating: 1A; Package / Case: 0603 (1608 Metric); Mounting Type: Surface Mount; Packaging: Cut Tape (CT); Height (Max): 0.037" (0.95mm); Size / Dimension: 0.063" L x 0.031" W (1.60mm x 0.80mm); ComponentLink1URL: http://www.tdk.co.jp/tefe02/e9413_mpz.pdf; ComponentLink1Description: http://www.tdk.co.jp/tefe02/e9413_mpz.pdf; .Checked SCH: RF
footprint C0603
pins: 1, 2

## N7G24-A0B2RB-10-0HT
designator J?
CFAST HEADER STANDOFF SMD R/A; Manufacturer: 3M; Card Type: CFast™ - Type I, II; Number of Positions: 24; Connector Type: Connector; Insertion, Removal Method: Push In, Pull Out; .Checked PCB: RF; Supplier 1: Digi-Key; Supplier Part Number 1: 3M9678-ND; Manufacturer Part Number: N7G24-A0B2RB-10-0HT; RoHS: RoHS Compliant; Category: Connectors, Interconnects; Stock 1: 703; Pricing 1: 1=6.58, 10=6.302, 50=5.48, 100=5.206, 250=4.658, 500=4.384, 1000=3.836, 2500=3.6442, 5000=3.562 (USD); Ejector Side: -; Mounting Type: Surface Mount, Right Angle; Features: Board Guide, Card Guide; Height Above Board: 0.303" (7.70mm); Mounting Feature: Normal, Standard - Top; Packaging: Tray; Contact Finish: Gold; Contact Finish Thickness: 30µin (0.76µm); ComponentLink1URL: http://multimedia.3m.com/mws/mediawebserver?mwsId=SSSSSu7zK1fslxtUO8_Glx2Uev7qe17zHvTSevTSeSSSSSS--; ComponentLink1Description: http://multimedia.3m.com/mws/mediawebserver?mwsId=SSSSSu7zK1fslxtUO8_Glx2Uev7qe17zHvTSevTSeSSSSSS--; .Checked SCH: RF
footprint CFAST10
pins: C1 CASE0, C2 CASE1, H1 MH1, H2 hidden, H3 MH3, H4 hidden, H5 hidden, H6 hidden, PC1 CDI, PC2 GND, PC3 TBD, PC4 TBD, PC5 TBD, PC6 TBD, PC7 GND, PC8 LED1, PC9 LED2, PC10 IO1, PC11 IO2, PC12 IO3, PC13 3.3V, PC14 3.3V, PC15 PGND, PC16 PGND, PC17 CDO, S1 SGND, S2 A+ (Host TX+), S3 A- (Host TX-), S4 SGND, S5 B- (Host RX-), S6 B+ (Host RX+), S7 SGND

## PCA9306DCTR
designator U?
IC VOLT-LEVEL TRANSLATOR SM8; Manufacturer: Texas Instruments; Logic Function: Translator, Bidirectional, Open Drain; Number of Bits: 2; Input Type: I2C/SMBus; Output Type: I²C™/SMBus™; Number of Outputs/Channel: 1; Differential - Input:Output: No/No; Propagation Delay (Max): 0.3ns; Voltage - Supply: 1.2 V ~ 3.3 V, 1.8 V ~ 5.5 V; .Creator: MM; Supplier 1: Digi-Key; Manufacturer Part Number: PCA9306DCTR; RoHS: RoHS Compliant; Category: Integrated Circuits (ICs); Stock 1: 21877; Pricing 1: 1=0.94, 10=0.829, 25=0.7488, 100=0.351, 250=0.34452, 500=0.338, 750=0.33151 (USD); Packaging: Cut Tape (CT); Data Rate: -; Number of Channels: 2; Operating Temperature: -40°C ~ 85°C; Package / Case: 8-LSSOP (0.11", 2.80mm Width); Supplier Device Package: SM8; Mounting Type: Surface Mount; ComponentLink1URL: http://www.ti.com/lit/ds/symlink/pca9306.pdf; ComponentLink1Description: http://www.ti.com/lit/ds/symlink/pca9306.pdf; Supplier Part Number 1: 296-18509-1-ND; .Checked PCB: MM; .Checked SCH: MM
footprint DCT_8 (Creator MM)
pins: 1 GND, 2 VREF1, 3 SCL1, 4 SDA1, 5 SDA2, 6 SCL2, 7 VREF2, 8 EN

## PCA9535BS,118
designator U?, comment PCA9535BS
IC I/O EXPANDER I2C 16B 24HVQFN; Manufacturer: NXP Semiconductors; Manufacturer Part Number: PCA9535BS,118; Interface: I²C, SMBus; Number of I /O: 16; Interrupt Output: Yes; Frequency - Clock: 400kHz; Voltage - Supply: 2.3 V ~ 5.5 V; Includes: POR; .Checked PCB: RF; Supplier 1: Digi-Key; Supplier Part Number 1: 568-3376-1-ND; RoHS: RoHS Compliant; Category: Integrated Circuits (ICs); Stock 1: 20623; Pricing 1: 1=2.11, 10=1.901, 25=1.7028, 100=1.5312, 250=1.3596, 500=1.188, 1000=0.9834, 2500=0.9174 (USD); Operating Temperature: -40°C ~ 85°C; Mounting Type: Surface Mount; Package / Case: 24-VFQFN Exposed Pad; Supplier Device Package: 24-HVQFN (4x4); Packaging: Cut Tape (CT); ComponentLink1URL: http://www.nxp.com/documents/data_sheet/PCA9535_PCA9535C.pdf; ComponentLink1Description: http://www.nxp.com/documents/data_sheet/PCA9535_PCA9535C.pdf; .Checked SCH: RF
footprint HVQFN24_4x4MM
pins: 1 IO0_0, 2 IO0_1, 3 IO0_2, 4 IO0_3, 5 IO0_4, 6 IO0_5, 7 IO0_6, 8 IO0_7, 9 GND (power), 10 IO1_0, 11 IO1_1, 12 IO1_2, 13 IO1_3, 14 IO1_4, 15 IO1_5, 16 IO1_6, 17 IO1_7, 18 A0 (in), 19 SCL, 20 SDA (io), 21 VCC (power), 22 ~{IN}T/O16, 23 A1 (in), 24 A2 (in), 25 EP (power)

## PCB_iMX6_REX_Baseboard_V1I1
designator PCB?, comment iMX6 Rex Baseboard V1I1 PCB  (mechanical)
Printed Circuit Board; .Creator: MM; Category: Printed circuits board; .Checked SCH: MM
text: PCB

## PCF8563T
designator U?
IC REAL TIME CLK/CALENDAR 8-SOIC; Manufacturer: NXP Semiconductors; Manufacturer Part Number: PCF8563T/F4,118; .Checked PCB: used; Voltage - Supply: 1.8 V ~ 5.5 V; Interface: I²C, 2-Wire Serial; Time Format: HH:MM:SS (24 hr); Date Format: YY-MM-DD-dd; Voltage - Supply, Battery: 1 V ~ 5.5 V; .Checked SCH: used; Category: Integrated Circuits (ICs); Operating Temperature: -40°C ~ 85°C; Package / Case: 8-SOIC (0.154", 3.90mm Width); Price 1k [$]: 1.04000; Value: PCF8563T; Family: Clock/Timing - Real Time Clocks; Supplier Part Number: 568-1068-1-ND; Supplier: Digikey; Supplier 1: Digi-Key; Supplier Part Number 1: 568-1068-1-ND; RoHS: RoHS Compliant; Stock 1: 4926; Pricing 1: 1=1.91, 10=1.728, 25=1.548, 100=1.392, 250=1.236, 500=1.08, 1000=0.894 (USD); Type: Clock/Calendar; Features: Alarm, Leap Year, Watchdog Timer; Memory Size: -; Mounting Type: Surface Mount; Supplier Device Package: 8-SO; Packaging: Cut Tape (CT); ComponentLink1URL: http://www.nxp.com/documents/data_sheet/PCF8563.pdf; ComponentLink1Description: http://www.nxp.com/documents/data_sheet/PCF8563.pdf
footprint 8_SOIC_3.9MM
pins: 1 OSCI, 2 OSCO, 3 INTn (oc), 4 VSS (power), 5 SDA (io), 6 SCL, 7 CLKOUT (oc), 8 VDD (power)

## PGB1010603MR
designator D?
SUPPRESSOR ESD 24VDC 0603 SMD; Manufacturer: Littelfuse Inc; Voltage - Reverse Standoff (Typ): 24V; Polarization: Bidirectional; .Creator: MM; Supplier 1: Digi-Key; Manufacturer Part Number: PGB1010603MR; RoHS: RoHS Compliant; Category: Circuit Protection; Stock 1: 155406; Pricing 1: 1=0.66, 10=0.556, 25=0.4872, 100=0.4172, 250=0.3618, 500=0.30646 (USD); Packaging: Cut Tape (CT); Voltage - Breakdown: -; Power (Watts): -; Mounting Type: Surface Mount; Package / Case: 0603 (1608 Metric); Supplier Device Package: 0603 (1608 Metric); ComponentLink1URL: http://www.littelfuse.com/data/en/Data_Sheets/Littelfuse_PulseGuard-ESD_PGB1.pdf; ComponentLink1Description: http://www.littelfuse.com/data/en/Data_Sheets/Littelfuse_PulseGuard-ESD_PGB1.pdf; Supplier Part Number 1: F2594CT-ND; .Checked PCB: MM; .Checked SCH: MM
footprint C0603
pins: 1, 2

## PJ-002AH
designator J?
CONN PWR JACK 2.1X5.5MM HIGH CUR; Manufacturer: CUI Inc; .Checked PCB: used; Mating connector: 2.1mm ID, 5.5mm OD; Gender: Male; Number of Positions/Contacts: 2 Conductors, 3 Contacts; Internal Switch(s): Single Switch, Normally Closed; Shielding: Unshielded; Voltage - Rated: 24VDC; Current Rating: 5A; .Checked SCH: used; Category: Connectors, Interconnects; Family: Barrel - Power; Manufacturer Part Number: PJ-002AH; Operating Temperature: -25°C ~ 85°C; Price 1k [$]: 0.23625; Supplier: Digikey; Supplier Part Number: CP-002AH-ND; Value: PJ-002AH; Supplier 1: Digi-Key; Supplier Part Number 1: CP-002AH-ND; RoHS: RoHS Compliant; Stock 1: 138933; Pricing 1: 1=1.01, 10=0.704, 100=0.4724, 500=0.3819, 1000=0.3417, 2500=0.27135 (USD); Connector Type: Jack; Plug/Mating Plug Diameter: 2.1mm ID, 5.5mm OD; Mounting Type: Through Hole, Right Angle; Termination: Solder Eyelet(s); Features: -; Color: Black; Contact Material: Copper Alloy; Contact Material - Plating: Nickel; Housing Color: Black; Housing Material: Thermoplastic; ComponentLink1URL: http://products.cui.com/GetSpecForDigiKey.aspx?MFGNum=PJ-002AH; ComponentLink1Description: http://products.cui.com/GetSpecForDigiKey.aspx?MFGNum=PJ-002AH
footprint POWER_JACK_5.5_2.1MM_NS
pins: 1, 2, 3

## QPC02SXGN-RC
designator LINK?, comment LINK  (mechanical)
CONN JUMPER SHORTING .100" GOLD; Manufacturer: Sullins Connector Solutions; Manufacturer Part Number: QPC02SXGN-RC; Gender: Female Sockets; Number of Positions or Pins (Grid): 2 (1 x 2); Pitch: 0.100" (2.54mm); .Checked SCH: RF; Supplier 1: Digi-Key; Supplier Part Number 1: S9337-ND; RoHS: RoHS Compliant; Category: Connectors, Interconnects; Stock 1: 23274; Pricing 1: 1=0.11, 10=0.066, 25=0.0468, 50=0.0384, 100=0.033, 250=0.02792, 500=0.0258, 1000=0.0228, 2500=0.018 (USD); Type: Open Top; Height: 0.235" (5.97mm); Contact Finish: Gold; Contact Finish Thickness: Flash; Color: -; Packaging: Bulk; ComponentLink1URL: http://www.sullinscorp.com/drawings/284_SXGN_11510.pdf; ComponentLink1Description: http://www.sullinscorp.com/drawings/284_SXGN_11510.pdf

## QTH-030-01-L-D-A
designator J?
CONN HEADER HS .5MM 60POS DL AU; Manufacturer: Samtec Inc; .Checked PCB: used; Connector Type: Header, Outer Shroud Contacts; Number of Positions: 60; Pitch: 0.020" (0.50mm); Mating connector: QSH-030-01-L-D-A; Mated Stacking Heights: 5mm; .Checked SCH: used; Category: Connectors, Interconnects; Supplier Part Number: SAM8185-ND; Manufacturer Part Number: QTH-030-01-L-D-A; Price 1k [$]: 5.65775; Value: QTH-030-01-L-D-A; Number of Rows: 2; Height with mainting: 5mm; Supplier: Digikey; Supplier 1: Digi-Key; Supplier Part Number 1: SAM8185-ND; RoHS: RoHS Compliant; Stock 1: 4926; Pricing 1: 1=9.14, 10=8.455, 25=7.9976, 50=7.5862, 100=7.0835, 250=6.16952, 500=5.941, 1000=5.7125, 2500=5.484 (USD); Mounting Type: Surface Mount; Features: Board Guide, Ground Bus (Plane); Contact Finish: Gold; Contact Finish Thickness: 10µin (0.25µm); Packaging: Tray; Height Above Board: 0.168" (4.27mm); ComponentLink1URL: http://www.samtec.com/ftppub/cpdf/QTH-XXX-XX-X-D-XXX-MKT.pdf; ComponentLink1Description: http://www.samtec.com/ftppub/cpdf/QTH-XXX-XX-X-D-XXX-MKT.pdf
footprint QTH-030-01-L-D-A
pins: 1, 2, 3, 4, 5, 6, 7, 8, 9, 10, 11, 12, 13, 14, 15, 16, 17, 18, 19, 20, 21, 22, 23, 24, 25, 26, 27, 28, 29, 30, 31, 32, 33, 34, 35, 36, 37, 38, 39, 40, 41, 42, 43, 44, 45, 46, 47, 48, 49, 50, 51, 52, 53, 54, 55, 56, 57, 58, 59, 60, 61 GND, 62 GND, 63 GND, 64 GND, 65 HOLE1 hidden, 66 HOLE2 hidden